# Altium schematic symbol library RES 18k 1W.Schlib: 1 symbol
Pins are listed as number, name and electrical type; pins without a type are passive.

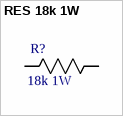
[diagram p0: symbol RES 18k 1W]

## RES 18k 1W
designator R?, comment 18k 1W
RES SMD 18K OHM 5% 1W 2512; Package: 0805; Value: 18k; Power (Watts): 1W; Tolerance: 5%
footprint 2512 (Chip Resistor, 2-Leads, Body 6.35x3.10mm, IPC Low Density)
pins: 1 R1, 2 R2